# Altium footprint library DISCRETE_SMD.PcbLib: 29 footprints (part 2 of 2)
Each footprint in its own frame and in the unit in brackets; x right, y up, seen from the top. Pads: shape width x height; smd on the part's side, far side on the other; paste and mask are expansions set on the pad; w line width, h text height; cw(c..) or ccw(c..) is an arc to the next point about the centre after c.
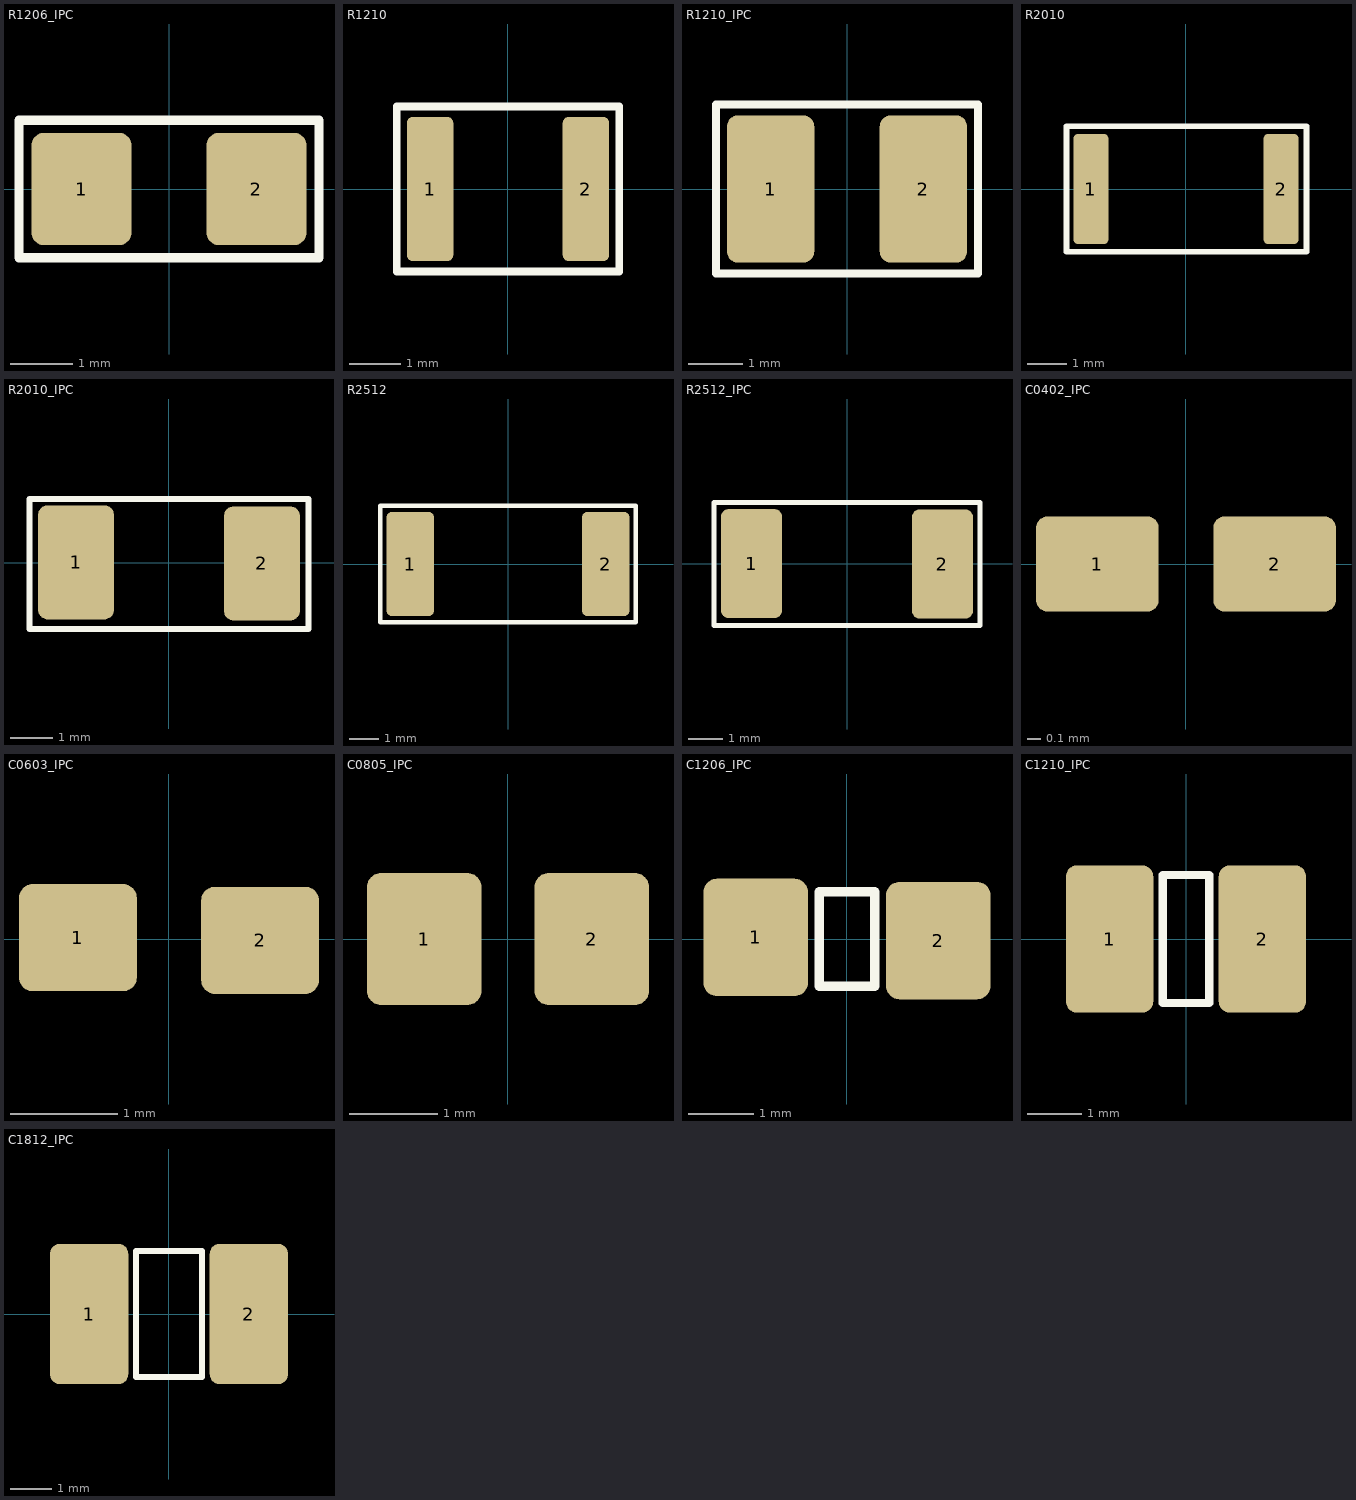
[diagram p1: the footprints below, top view; thin cyan lines are the x and y axes]

## R1206_IPC [mm] "Чип-резистор 1206"
pads (2):
  rrect25% 1.6x1.8 smd paste-0.043 mask+0.075: 1(-1.4,0) 2(1.4,0)
Top Overlay:
  lines w0.15: -2.4,-1.1 2.4,-1.1 2.4,1.1 -2.4,1.1 -2.4,-1.1
3D body "User Library-RES_3216-1206.step": height 0.86, standoff 0.01, extent -1.675,-0.865 1.675,0.865

## R1210 [mm] "Чип-резистор 1210"
pads (2):
  rrect25% 0.9x2.8 smd paste-0.035 mask+0.075: 1(-1.512,0) 2(1.513,0)
Top Overlay:
  lines w0.15: -2.162,-1.6 2.163,-1.6 2.163,1.6 -2.162,1.6 -2.162,-1.6
3D body "User Library-1210.step": height 0.58, standoff 0.02, extent -1.6,-1.25 1.6,1.25

## R1210_IPC [mm] "Чип-резистор 1210"
pads (2):
  rrect25% 1.6x2.7 smd paste-0.052 mask+0.075: 1(-1.4,0) 2(1.4,0)
Top Overlay:
  lines w0.15: -2.4,-1.55 2.4,-1.55 2.4,1.55 -2.4,1.55 -2.4,-1.55
3D body "User Library-1210.step": height 0.58, standoff 0.02, extent -1.575,-1.25 1.625,1.25

## R2010 [mm] "Чип-резистор 2010"
pads (2):
  rrect25% 0.9x2.8 smd paste-0.035 mask+0.075: 1(-2.425,0) 2(2.425,0)
Top Overlay:
  lines w0.15: -3.05,-1.6 -3.05,1.6 3.075,1.6 3.075,-1.6 -3.05,-1.6
3D body "User Library-2010.step": height 0.58, standoff 0.02, extent -2.5,-1.25 2.5,1.25

## R2010_IPC [mm] "Чип-резистор 2010"
pads (2):
  rrect25% 1.8x2.7 smd paste-0.055 mask+0.075: 1(-2.2,0.013) 2(2.2,-0.012)
Top Overlay:
  lines w0.15: -3.3,-1.562 -3.3,1.513 3.3,1.513 3.3,-1.562 -3.3,-1.562
3D body "User Library-2010.step": height 0.58, standoff 0.02, extent -2.51,-1.229 2.49,1.271

## R2512 [mm] "Чип-резистор 2512"
pads (2):
  rrect25% 1.6x3.5 smd paste-0.056 mask+0.075: 1(-3.275,0) 2(3.275,0)
Top Overlay:
  lines w0.15: -4.275,-1.95 4.275,-1.95 4.275,1.95 -4.275,1.95 -4.275,-1.95
3D body "User Library-2512.step": height 0.58, standoff 0.02, extent -3.225,-1.6 3.175,1.6

## R2512_IPC [mm] "Чип-резистор 2512"
pads (2):
  rrect25% 1.8x3.2 smd paste-0.059 mask+0.075: 1(-2.8,0) 2(2.8,-0.012)
Top Overlay:
  lines w0.15: -3.9,-1.812 3.9,-1.812 3.9,1.788 -3.9,1.788 -3.9,-1.812
3D body "User Library-2512.step": height 0.58, standoff 0.02, extent -3.2,-1.6 3.2,1.6

## С0402_IPC [mm] "Чип-конденсатор 0402"
pads (2):
  rrect25% 0.9x0.7 smd paste-0.02 mask+0.05: 1(-0.65,0) 2(0.65,0)
3D body "User Library-0402 SMD Capacitor.step": height 0.21, standoff 0.01, extent -0.5,-0.3 0.5,0.3

## С0603_IPC [mm] "Чип-конденсатор 0603"
pads (2):
  rrect25% 1.1x1 smd paste-0.027 mask+0.05: 1(-0.85,0.013) 2(0.85,-0.012)
3D body "User Library-0603 SMD Capacitor.step": height 0.31, standoff 0.01, extent -0.8,-0.4 0.8,0.4

## С0805_IPC [mm] "Чип-конденсатор 0805"
pads (2):
  rrect25% 1.3x1.5 smd paste-0.036 mask+0.05: 1(-0.95,0) 2(0.95,0)
3D body "User Library-0805 SMD Capacitor.step": height 0.79, standoff 0.01, extent -1,-0.625 1,0.625

## С1206_IPC [mm] "Чип-онденсатор 1206"
pads (2):
  rrect25% 1.6x1.8 smd paste-0.043 mask+0.05: 1(-1.4,0.025) 2(1.4,-0.025)
Top Overlay:
  lines w0.15: -0.425,-0.725 -0.425,0.725 0.425,0.725 0.425,-0.725 -0.425,-0.725
3D body "User Library-1206 SMD Capacitor.step": height 1.01, standoff 0.01, extent -1.6,-0.8 1.6,0.8

## С1210_IPC [mm] "Чип-конденсатор 1210"
pads (2):
  rrect25% 1.6x2.7 smd paste-0.052 mask+0.05: 1(-1.4,0) 2(1.4,0)
Top Overlay:
  lines w0.15: -0.425,-1.175 -0.425,1.175 0.425,1.175 0.425,-1.175 -0.425,-1.175
3D body "User Library-CAPC3225X10.step": height 1.01, standoff 0.01, extent -1.6,-1.25 1.6,1.25

## С1812_IPC [mm] "Чип-конденсатор 1812"
pads (2):
  rrect25% 1.9x3.4 smd paste-0.063 mask+0.05: 1(-1.937,0) 2(1.938,0)
Top Overlay:
  lines w0.15: -0.8,-1.525 0.8,-1.525 0.8,1.525 -0.8,1.525 -0.8,-1.525
3D body "User Library-1812 SMD Capacitor.step": height 1.61, standoff 0.01, extent -2.25,-1.6 2.25,1.6